# Altium footprint library PCB_Clock_STM8.PcbLib: 21 footprints (part 2 of 2)
Each footprint in its own frame and in the unit in brackets; x right, y up, seen from the top. Pads: shape width x height; smd on the part's side, far side on the other; paste and mask are expansions set on the pad; w line width, h text height; cw(c..) or ccw(c..) is an arc to the next point about the centre after c.
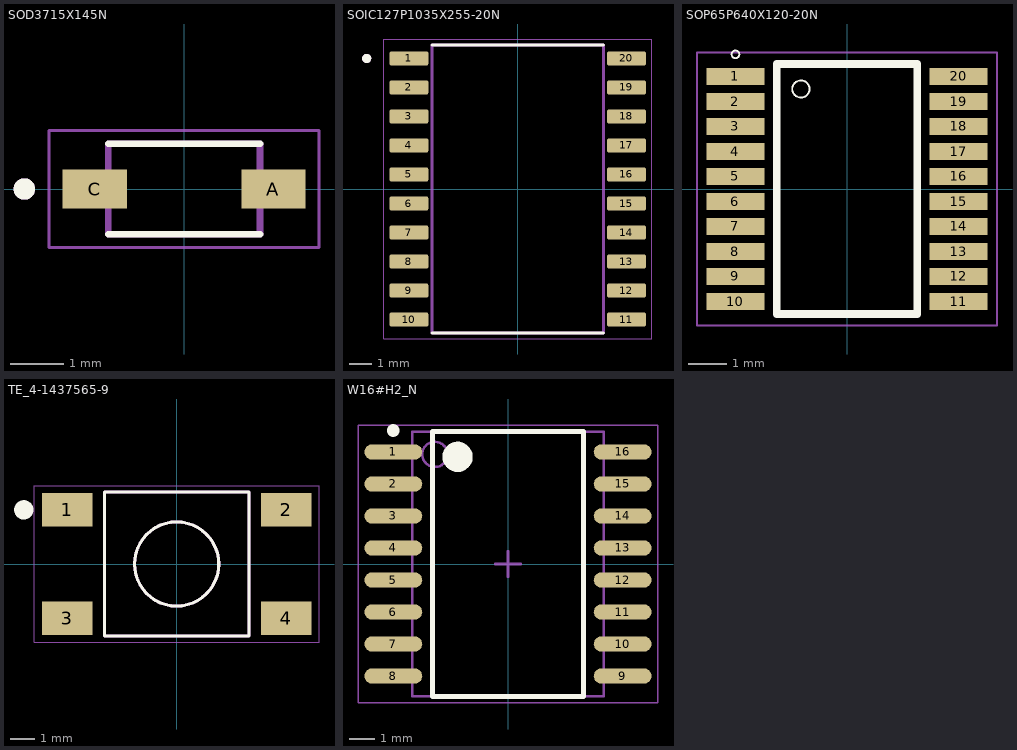
[diagram p1: the footprints below, top view; thin cyan lines are the x and y axes]

## SOD3715X145N [mm]
pads (2):
  rect 1.21x0.73 smd: A(1.68,0) C(-1.68,0)
Top Overlay:
  circle w0.2: c-3,0 r0.1
  lines w0.127: -1.425,-0.85 1.425,-0.85 ; -1.425,0.85 1.425,0.85
Mechanical 13:
  circle w0.2: c-3,0 r0.1
  lines w0.127: -1.425,-0.85 1.425,-0.85 1.425,0.85 -1.425,0.85 -1.425,-0.85
Mechanical 15:
  lines w0.05: -2.535,-1.1 2.535,-1.1 2.535,1.1 -2.535,1.1 -2.535,-1.1
3D body "step_temp.STEP": height 0.8, standoff -0.73, extent -1.825,-0.775 1.825,0.775

## SOIC127P1035X255-20N [mm]
pads (20):
  rrect25% 1.7x0.61 smd: 1(-4.76,5.715) 2(-4.76,4.445) 3(-4.76,3.175) 4(-4.76,1.905) 5(-4.76,0.635) 6(-4.76,-0.635) 7(-4.76,-1.905) 8(-4.76,-3.175) 9(-4.76,-4.445) 10(-4.76,-5.715) 11(4.76,-5.715) 12(4.76,-4.445) 13(4.76,-3.175) 14(4.76,-1.905) 15(4.76,-0.635) 16(4.76,0.635) 17(4.76,1.905) 18(4.76,3.175) 19(4.76,4.445) 20(4.76,5.715)
Top Overlay:
  circle w0.2: c-6.61,5.715 r0.1
  lines w0.127: -3.75,-6.3 3.75,-6.3 ; -3.75,6.3 3.75,6.3
Mechanical 13:
  circle w0.2: c-6.61,5.715 r0.1
  lines w0.127: -3.75,-6.3 -3.75,6.3 3.75,6.3 3.75,-6.3 -3.75,-6.3
Mechanical 15:
  lines w0.05: -5.86,-6.55 5.86,-6.55 5.86,6.55 -5.86,6.55 -5.86,-6.55
3D body "step_temp.STEP": height 2.55, standoff 0, extent -5.175,-6.3 5.175,6.3

## SOP65P640X120-20N [mm]
pads (20):
  rect 1.5x0.45 smd: 1(-2.9,2.925) 2(-2.9,2.275) 3(-2.9,1.625) 4(-2.9,0.975) 5(-2.9,0.325) 6(-2.9,-0.325) 7(-2.9,-0.975) 8(-2.9,-1.625) 9(-2.9,-2.275) 10(-2.9,-2.925) 11(2.9,-2.925) 12(2.9,-2.275) 13(2.9,-1.625) 14(2.9,-0.975) 15(2.9,-0.325) 16(2.9,0.325) 17(2.9,0.975) 18(2.9,1.625) 19(2.9,2.275) 20(2.9,2.925)
Top Overlay:
  circle w0.05: c-1.2,2.6 r0.224
  circle w0.05: c-1.2,2.6 r0.224
  circle w0.05: c-2.9,3.5 r0.1
  lines w0.2: -1.825,-3.25 1.825,-3.25 1.825,3.25 -1.825,3.25 -1.825,-3.25
Mechanical 15:
  lines w0.05: -3.9,-3.55 3.9,-3.55 3.9,3.55 -3.9,3.55 -3.9,-3.55
3D body "step_temp.STEP": height 1.29, standoff 0.09, extent -3.2,-3.25 3.2,3.25

## TE_4-1437565-9 [mm]
pads (4):
  rect 2.1x1.4 smd: 1(-4.55,2.25) 2(4.55,2.25) 3(-4.55,-2.25) 4(4.55,-2.25)
Top Overlay:
  circle w0.127: c0,0 r1.75
  circle w0.4: c-6.35,2.25 r0.2
  lines w0.127: -3,-2.997 -3,3 3,3 3,-3 -2.992,-3
Mechanical 13:
  circle w0.127: c0,0 r1.75
  lines w0.127: -3,-3 3,-3 3,3 -3,3 -3,-3
Mechanical 15:
  lines w0.05: -5.914,-3.25 5.914,-3.25 5.914,3.25 -5.914,3.25 -5.914,-3.25
3D body "step_temp.STEP": height 7.26, standoff 0, extent -5,-3 5,3

## W16#H2_N [mm]
pads (16):
  oval 2.3x0.6 smd: 1(-4.55,4.445) 2(-4.55,3.175) 3(-4.55,1.905) 4(-4.55,0.635) 5(-4.55,-0.635) 6(-4.55,-1.905) 7(-4.55,-3.175) 8(-4.55,-4.445) 9(4.55,-4.445) 10(4.55,-3.175) 11(4.55,-1.905) 12(4.55,-0.635) 13(4.55,0.635) 14(4.55,1.905) 15(4.55,3.175) 16(4.55,4.445)
Top Overlay:
  circle w0.6: c-2,4.25 r0.3
  circle w0.25: c-4.55,5.295 r0.125
  lines w0.2: -3,-5.25 3,-5.25 3,5.25 -3,5.25 -3,-5.25
Mechanical 13:
  circle w0.1: c-2.9,4.35 r0.5
  lines w0.1: -3.8,-5.25 3.8,-5.25 3.8,5.25 -3.8,5.25 -3.8,-5.25
Mechanical 15:
  lines w0.05: -5.95,-5.5 5.95,-5.5 5.95,5.5 -5.95,5.5 -5.95,-5.5
  lines w0.1: -0.5,0 0.5,0 ; 0,-0.5 0,0.5
3D body: height 2.65, standoff 0.1, extent -3.8,-5.25 3.8,5.25